# EAGLE library part MAX756 (library cTechnologies_integratedCircuits)
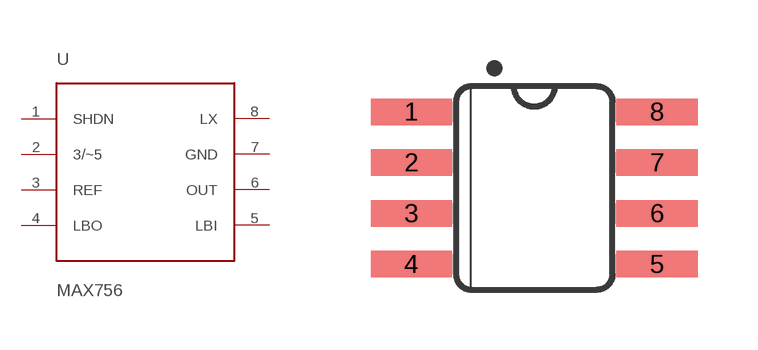
[diagram p18: symbol with the pads of SO08; footprint SO08]

Designator prefix U

## MAX756  [SO08]
1  SHDN
2  3/~5
3  REF
4  LBO
5  LBI
6  OUT
7  GND
8  LX

## Footprint SO08 (pad centres in mm)
Small Outline Package SOIC 150 mil
smd 2.032 x 0.66: 1 -3.073,1.905; 2 -3.073,0.635; 3 -3.073,-0.635; 4 -3.073,-1.905; 5 3.073,-1.905; 6 3.073,-0.635; 7 3.073,0.635; 8 3.073,1.905